# EAGLE library part AAA/N-CLIPS (library DonB)
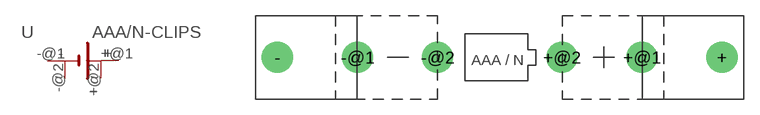
[diagram p6: symbol with the pads of AAA/N-CLIPS; footprint AAA/N-CLIPS]

Designator prefix -

## AAA/N-CLIPS  [AAA/N-CLIPS]
+  V+  sup
+@1  V+  sup
+@2  V+  sup
-  GND  sup
-@1  GND  sup
-@2  GND  sup

## Footprint AAA/N-CLIPS (pad centres in mm)
drill 2: + 21.336,0; +@1 13.652,0; +@2 5.969,0; - -21.336,0; -@1 -13.652,0; -@2 -5.969,0